# Altium schematic symbol library PAM2321.SchLib: 1 symbol
Pins are listed as number, name and electrical type; pins without a type are passive.

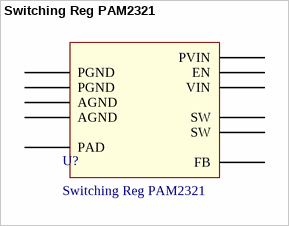
[diagram p0: symbol Switching Reg PAM2321]

## Switching Reg PAM2321
designator U?
Step-Down Switching Voltage Reg
footprint PAM2321 (2A Step-down Switchmode Regulator)
pins: 1 EN, 2 PVIN, 3 VIN, 4 AGND, 5 FB, 6 AGND, 7 SW, 8 SW, 9 PGND, 10 PGND, PAD